# Altium schematic symbol library EVQ-P2.SchLib: 1 symbol
Pins are listed as number, name and electrical type; pins without a type are passive.

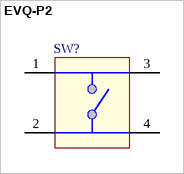
[diagram p0: symbol EVQ-P2]

## EVQ-P2
designator SW?
pins: 1, 2, 3, 4